# EAGLE library part INA219 (library Mikes-Stuff)
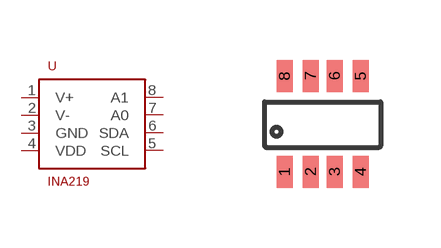
[diagram p20: symbol with the pads of SOT23-8; footprint SOT23-8]

Designator prefix -

## INA219SOT23-8  [SOT23-8]
1  V+
2  V-
3  GND
4  VDD
5  SCL
6  SDA
7  A0
8  A1

## Footprint SOT23-8 (pad centres in mm)
smd 0.4 x 0.8: 1 -0.95,-1.2; 2 -0.3,-1.2; 3 0.3,-1.2; 4 0.95,-1.2; 5 0.95,1.2; 6 0.3,1.2; 7 -0.3,1.2; 8 -0.95,1.2